# Altium schematic symbol library CRCW25121K80JNEG.SchLib: 2 symbols
Pins are listed as number, name and electrical type; pins without a type are passive.

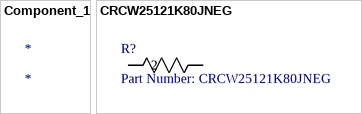
[diagram p0: symbols Component_1 to CRCW25121K80JNEG]

## Component_1
designator *

## CRCW25121K80JNEG
designator R?, comment Part Number: CRCW25121K80JNEG
No Description Available; Vendor: Vishay; Built_By: EMA_UL_Team; Manufacturer_Part_Number: CRCW25121K80JNEG; Copyright: Copyright (C) 2018 Accelerated Designs. All rights reserved; RefDes: RefDes; Type: DEV; Value: Value
footprint RC2512N
pins: 1, 2